# Altium schematic symbol library SCH - DAC - LM25574MT_NOPB.SCHLIB: 1 symbol
Pins are listed as number, name and electrical type; pins without a type are passive.

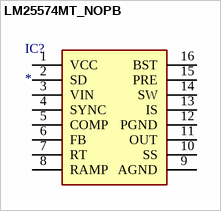
[diagram p0: symbol LM25574MT_NOPB]

## LM25574MT_NOPB
designator IC?
Integrated Circuit; Manufacturer_Name: Texas Instruments; Manufacturer_Part_Number: LM25574MT/NOPB; Datasheet Link: http://www.ti.com/lit/ds/symlink/lm25574.pdf; Height: 1.2mm
footprint SOP65P640X120-16N
pins: 1 VCC, 2 SD, 3 VIN, 4 SYNC, 5 COMP, 6 FB, 7 RT, 8 RAMP, 9 AGND, 10 SS, 11 OUT, 12 PGND, 13 IS, 14 SW, 15 PRE, 16 BST